# Altium footprint library SON_40P_V.PcbLib: 1 footprints
Each footprint in its own frame and in the unit in brackets; x right, y up, seen from the top. Pads: shape width x height; smd on the part's side, far side on the other; paste and mask are expansions set on the pad; w line width, h text height; cw(c..) or ccw(c..) is an arc to the next point about the centre after c.
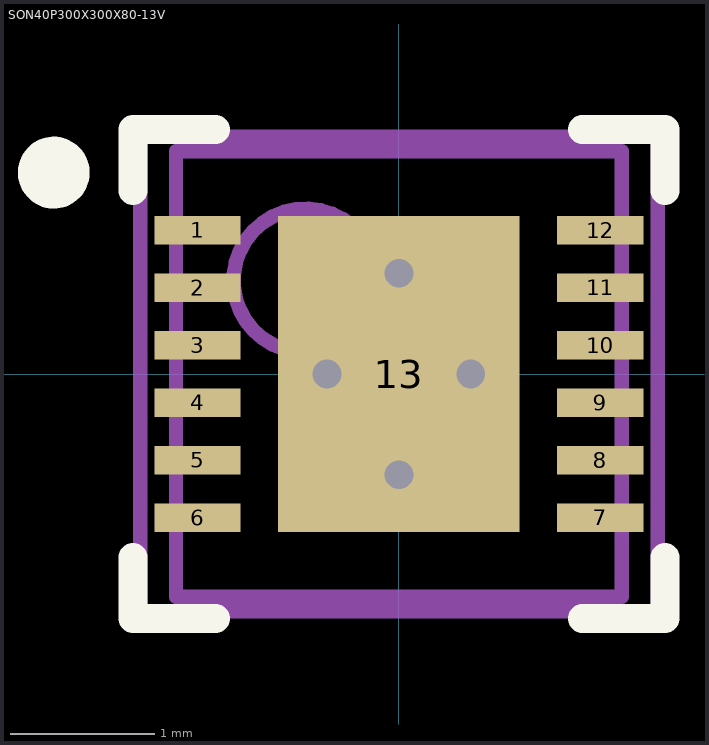
[diagram p0: the footprint, top view; thin cyan lines are the x and y axes]

## SON40P300X300X80-13V [mm] "SON, 12-Leads, Body 3x3mm, Pitch 0.4mm, NSC Recommended"
height 0.8
pads (13):
  rect 0.6x0.2 smd paste-0.125 mask+0.051: 1(-1.4,1) 2(-1.4,0.6) 3(-1.4,0.2) 4(-1.4,-0.2) 5(-1.4,-0.6) 6(-1.4,-1) 7(1.4,-1) 8(1.4,-0.6) 9(1.4,-0.2) 10(1.4,0.2) 11(1.4,0.6) 12(1.4,1)
  rect 1.68x2.2 smd paste-0.05 mask+0.051: 13(0,0)
via -0.5,0 diameter 0.5 hole 0.2
via 0.5,0 diameter 0.5 hole 0.2
via 0,0.7 diameter 0.5 hole 0.2
via 0,-0.7 diameter 0.5 hole 0.2
Top Overlay:
  circle w0.25: c-2.4,1.4 r0.125
  lines w0.2: -1.85,-1.275 -1.85,-1.7 -1.275,-1.7 ; -1.85,1.275 -1.85,1.7 -1.275,1.7 ; 1.275,-1.7 1.85,-1.7 1.85,-1.275 ; 1.275,1.7 1.85,1.7 1.85,1.275
Top Paste:
  region: 1.9,1.1 1.2,1.1 1.2,0.9 1.9,0.9
  region: 1.9,0.7 1.2,0.7 1.2,0.5 1.9,0.5
  region: 1.9,0.3 1.2,0.3 1.2,0.1 1.9,0.1
  region: 1.9,-0.1 1.2,-0.1 1.2,-0.3 1.9,-0.3
  region: 1.9,-0.5 1.2,-0.5 1.2,-0.7 1.9,-0.7
  region: 1.9,-0.9 1.2,-0.9 1.2,-1.1 1.9,-1.1
  rectangle: -1.9,-1.1 -1.2,-0.9
  rectangle: -1.9,-0.7 -1.2,-0.5
  rectangle: -1.9,-0.3 -1.2,-0.1
  rectangle: -1.9,0.1 -1.2,0.3
  rectangle: -1.9,0.5 -1.2,0.7
  rectangle: -1.9,0.9 -1.2,1.1
Mechanical 13:
  circle w0.1: c-0.65,0.65 r0.5
  lines w0.1: -1.55,-1.55 1.55,-1.55 1.55,1.55 -1.55,1.55 -1.55,-1.55
Mechanical 15:
  lines w0.1: -0.5,0 0.5,0 ; 0,-0.5 0,0.5 ; -1.8,-1.65 1.8,-1.65 1.8,1.65 -1.8,1.65 -1.8,-1.65
3D body: height 0.8, standoff 0, extent -1.55,-1.55 1.55,1.55